# Altium footprint library Jump_header.PcbLib: 54 footprints (part 1 of 4)
Each footprint in its own frame and in the unit in brackets; x right, y up, seen from the top. Pads: shape width x height; smd on the part's side, far side on the other; paste and mask are expansions set on the pad; w line width, h text height; cw(c..) or ccw(c..) is an arc to the next point about the centre after c.
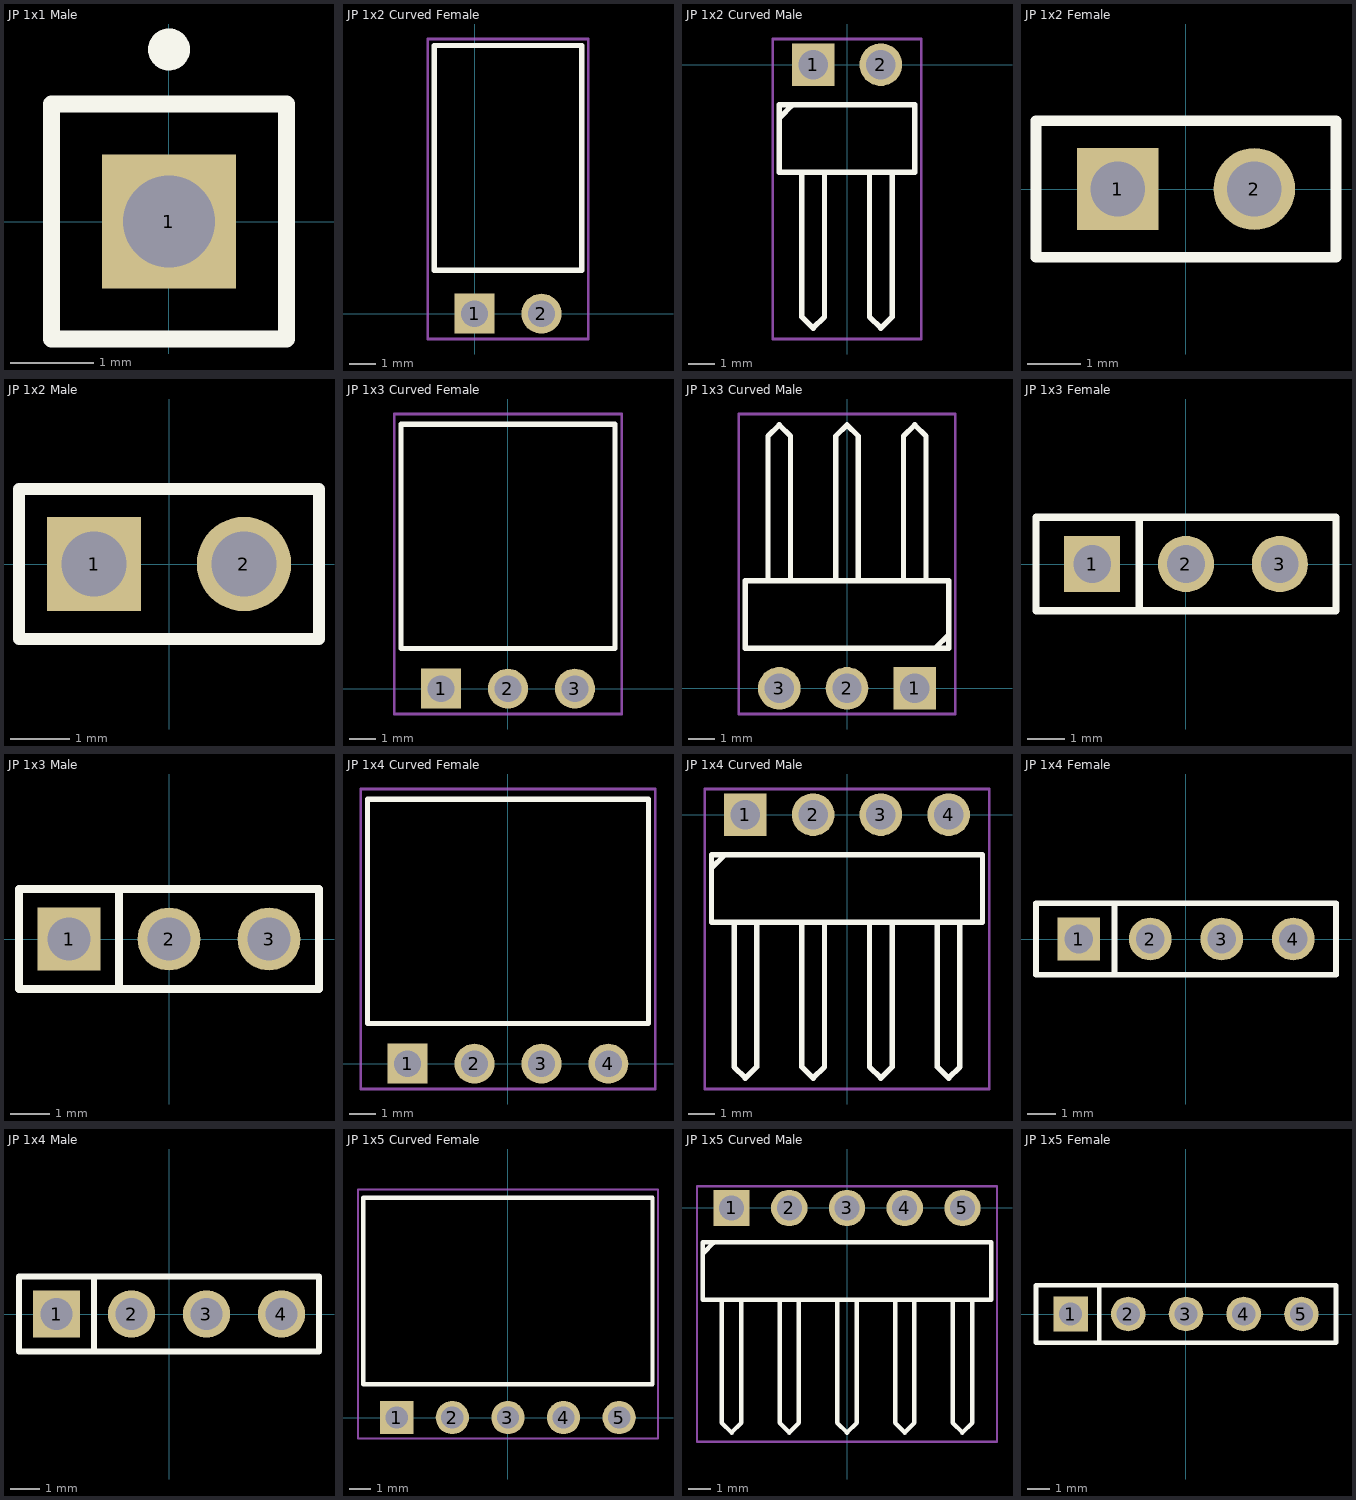
[diagram p0: the footprints below, top view; thin cyan lines are the x and y axes]

## JP 1x1 Male [mm]
pads (1):
  rect 1.6x1.6 hole 1.1: 1(0,0)
Top Overlay:
  circle w0.25: c0,2.05 r0.125
  lines w0.2: -1.4,-1.4 -1.4,1.4 1.4,1.4 1.4,-1.4 -1.4,-1.4
3D body "61300111121.stp": height 8.54, standoff -3, extent -1.27,-1.27 1.27,1.27

## JP 1x2 Curved Female [mm]
pads (2):
  rect 1.52x1.52 hole 1.02: 1(0,0)
  round 1.52 hole 1.02: 2(2.54,0)
Top Overlay:
  lines w0.2: -1.524,1.651 4.064,1.651 4.064,10.173 -1.524,10.173 -1.524,1.651
Mechanical 15:
  lines w0.1: -1.774,-0.96 4.314,-0.96 4.314,10.423 -1.774,10.423 -1.774,-0.96
3D body "613002143121.stp": height 2.51, standoff -3.08, extent -1.52,-0.127 4.06,10.173

## JP 1x2 Curved Male [mm]
pads (2):
  rect 1.6x1.6 hole 1.1: 1(-1.27,0)
  round 1.6 hole 1.1: 2(1.27,0)
Top Overlay:
  lines w0.2: -2.498,-1.966 -2.074,-1.542 ; -1.693,-4.065 -1.693,-9.459 -1.27,-9.882 -0.847,-9.459 -0.847,-4.04 ; 0.847,-4.065 0.847,-9.459 1.27,-9.882 1.693,-9.459 1.693,-4.065 ; -2.54,-4.04 2.54,-4.04 2.54,-1.5 -2.54,-1.5 -2.54,-4.04
Mechanical 15:
  lines w0.1: -2.79,-10.29 2.79,-10.29 2.79,0.96 -2.79,0.96 -2.79,-10.29
3D body "61300211021.stp": height 2.55, standoff -2.99, extent -2.54,-10.064 2.54,0.296

## JP 1x2 Female [mm]
pads (2):
  rect 1.52x1.52 hole 1.02: 1(-1.27,0)
  round 1.52 hole 1.02: 2(1.27,0)
Top Overlay:
  lines w0.2: -2.79,-1.27 -2.79,1.27 2.79,1.27 2.79,-1.27 -2.79,-1.27
3D body "61300211821.stp": height 8.51, standoff -3.09, extent -2.79,-1.25 2.79,1.25

## JP 1x2 Male [mm]
pads (2):
  rect 1.6x1.6 hole 1.1: 1(-1.27,0)
  round 1.6 hole 1.1: 2(1.27,0)
Top Overlay:
  lines w0.2: -2.54,-1.27 2.54,-1.27 2.54,1.27 -2.54,1.27 -2.54,-1.27
3D body "61300211121.stp": height 8.54, standoff -3, extent -2.54,-1.27 2.54,1.27

## JP 1x3 Curved Female [mm]
pads (3):
  rect 1.52x1.52 hole 1.02: 1(-2.54,0)
  round 1.52 hole 1.02: 2(0,0) 3(2.54,0)
Top Overlay:
  lines w0.2: -4.06,1.524 -4.06,10.033 4.064,10.033 4.064,1.524 -4.06,1.524
Mechanical 15:
  lines w0.1: -4.31,-0.96 -4.31,10.423 4.314,10.423 4.314,-0.96 -4.31,-0.96
3D body "613003143121.stp": height 2.51, standoff -3.08, extent -4.06,-0.254 4.06,10.046

## JP 1x3 Curved Male [mm]
pads (3):
  rect 1.6x1.6 hole 1.1: 1(2.54,0)
  round 1.6 hole 1.1: 2(0,0) 3(-2.54,0)
Top Overlay:
  lines w0.2: -2.963,4.04 -2.963,9.459 -2.54,9.882 -2.117,9.459 -2.117,4.065 ; -0.423,4.065 -0.423,9.459 0,9.882 0.423,9.459 0.423,4.065 ; 2.117,4.04 2.117,9.459 2.54,9.882 2.963,9.459 2.963,4.065 ; 3.344,1.542 3.768,1.966 ; -3.81,1.5 3.81,1.5 3.81,4.04 -3.81,4.04 -3.81,1.5
Mechanical 15:
  lines w0.1: -4.06,-0.96 4.06,-0.96 4.06,10.29 -4.06,10.29 -4.06,-0.96
3D body "61300311021.stp": height 2.55, standoff -2.99, extent -3.81,-0.296 3.81,10.064

## JP 1x3 Female [mm]
pads (3):
  rect 1.52x1.52 hole 1.02: 1(-2.54,0)
  round 1.52 hole 1.02: 2(0,0) 3(2.54,0)
Top Overlay:
  lines w0.2: -1.27,-1.27 -1.27,1.27 ; -4.06,-1.27 -4.06,1.27 4.06,1.27 4.06,-1.27 -4.06,-1.27
3D body "61300311821.stp": height 8.51, standoff -3.09, extent -4.06,-1.25 4.06,1.25

## JP 1x3 Male [mm]
pads (3):
  rect 1.6x1.6 hole 1.1: 1(-2.54,0)
  round 1.6 hole 1.1: 2(0,0) 3(2.54,0)
Top Overlay:
  lines w0.2: -1.27,-1.27 -1.27,1.27 ; -3.81,-1.27 -3.81,1.27 3.81,1.27 3.81,-1.27 -3.81,-1.27
3D body "61300311121.stp": height 8.54, standoff -3, extent -3.81,-1.27 3.81,1.27

## JP 1x4 Curved Female [mm]
pads (4):
  rect 1.52x1.52 hole 1.02: 1(-3.81,0)
  round 1.52 hole 1.02: 2(-1.27,0) 3(1.27,0) 4(3.81,0)
Top Overlay:
  lines w0.2: -5.33,1.524 5.334,1.524 5.334,10.033 -5.33,10.033 -5.33,1.524
Mechanical 15:
  lines w0.1: -5.58,-0.96 5.584,-0.96 5.584,10.423 -5.58,10.423 -5.58,-0.96
3D body "613004143121.stp": height 2.51, standoff -3.08, extent -5.33,-0.254 5.33,10.046

## JP 1x4 Curved Male [mm]
pads (4):
  rect 1.6x1.6 hole 1.1: 1(-3.81,0)
  round 1.6 hole 1.1: 2(-1.27,0) 3(1.27,0) 4(3.81,0)
Top Overlay:
  lines w0.2: -5.038,-1.966 -4.614,-1.542 ; -4.233,-4.065 -4.233,-9.459 -3.81,-9.882 -3.387,-9.459 -3.387,-4.04 ; -1.693,-4.065 -1.693,-9.459 -1.27,-9.882 -0.847,-9.459 -0.847,-4.065 ; 0.847,-4.065 0.847,-9.459 1.27,-9.882 1.693,-9.459 1.693,-4.04 ; 3.387,-4.065 3.387,-9.459 3.81,-9.882 4.233,-9.459 4.233,-4.065 ; -5.08,-4.04 -5.08,-1.5 5.08,-1.5 5.08,-4.04 -5.08,-4.04
Mechanical 15:
  lines w0.1: -5.33,-10.29 5.33,-10.29 5.33,0.96 -5.33,0.96 -5.33,-10.29
3D body "61300411021.stp": height 2.54, standoff -3, extent -5.08,-10.106 5.08,0.254

## JP 1x4 Female [mm]
pads (4):
  rect 1.52x1.52 hole 1.02: 1(-3.81,0)
  round 1.52 hole 1.02: 2(-1.27,0) 3(1.27,0) 4(3.81,0)
Top Overlay:
  lines w0.2: -2.54,-1.27 -2.54,1.27 ; -5.33,-1.27 -5.33,1.27 5.33,1.27 5.33,-1.27 -5.33,-1.27
3D body "61300411821.stp": height 8.51, standoff -3.09, extent -5.33,-1.25 5.33,1.25

## JP 1x4 Male [mm]
pads (4):
  rect 1.6x1.6 hole 1.1: 1(-3.81,0)
  round 1.6 hole 1.1: 2(-1.27,0) 3(1.27,0) 4(3.81,0)
Top Overlay:
  lines w0.2: -2.54,-1.27 -2.54,1.27 ; -5.08,-1.27 5.08,-1.27 5.08,1.27 -5.08,1.27 -5.08,-1.27
3D body "61300411121.stp": height 8.54, standoff -3, extent -5.08,-1.27 5.08,1.27

## JP 1x5 Curved Female [mm]
pads (5):
  rect 1.52x1.52 hole 1.02: 1(-5.08,0)
  round 1.52 hole 1.02: 2(-2.54,0) 3(0,0) 4(2.54,0) 5(5.08,0)
Top Overlay:
  lines w0.2: -6.604,1.524 -6.604,10.046 6.604,10.046 6.604,1.524 -6.604,1.524
Mechanical 15:
  lines w0.1: -6.85,-0.96 -6.85,10.423 6.854,10.423 6.854,-0.96 -6.85,-0.96
3D body "613005143121.stp": height 2.51, standoff -3.08, extent -6.6,-0.254 6.6,10.046

## JP 1x5 Curved Male [mm]
pads (5):
  rect 1.6x1.6 hole 1.1: 1(-5.08,0)
  round 1.6 hole 1.1: 2(-2.54,0) 3(0,0) 4(2.54,0) 5(5.08,0)
Top Overlay:
  lines w0.2: -6.308,-1.966 -5.884,-1.542 ; -5.503,-4.065 -5.503,-9.459 -5.08,-9.882 -4.657,-9.459 -4.657,-4.04 ; -2.963,-4.065 -2.963,-9.459 -2.54,-9.882 -2.117,-9.459 -2.117,-4.065 ; -0.423,-4.065 -0.423,-9.459 0,-9.882 0.423,-9.459 0.423,-4.04 ; 2.117,-4.065 2.117,-9.459 2.54,-9.882 2.963,-9.459 2.963,-4.065 ; 4.657,-4.065 4.657,-9.459 5.08,-9.882 5.503,-9.459 5.503,-4.04 ; -6.35,-4.04 6.35,-4.04 6.35,-1.5 -6.35,-1.5 -6.35,-4.04
Mechanical 15:
  lines w0.1: -6.6,-10.29 -6.6,0.96 6.6,0.96 6.6,-10.29 -6.6,-10.29
3D body "61300511021.stp": height 2.55, standoff -2.99, extent -6.35,-10.064 6.35,0.296

## JP 1x5 Female [mm]
pads (5):
  rect 1.52x1.52 hole 1.02: 1(-5.08,0)
  round 1.52 hole 1.02: 2(-2.54,0) 3(0,0) 4(2.54,0) 5(5.08,0)
Top Overlay:
  lines w0.2: -3.81,-1.27 -3.81,1.27 ; -6.6,-1.27 -6.6,1.27 6.6,1.27 6.6,-1.27 -6.6,-1.27
3D body "61300511821.stp": height 8.51, standoff -3.09, extent -6.6,-1.25 6.6,1.25